# Altium footprint library 28Pins_prjct.PcbLib: 30 footprints (part 2 of 2)
Each footprint in its own frame and in the unit in brackets; x right, y up, seen from the top. Pads: shape width x height; smd on the part's side, far side on the other; paste and mask are expansions set on the pad; w line width, h text height; cw(c..) or ccw(c..) is an arc to the next point about the centre after c.
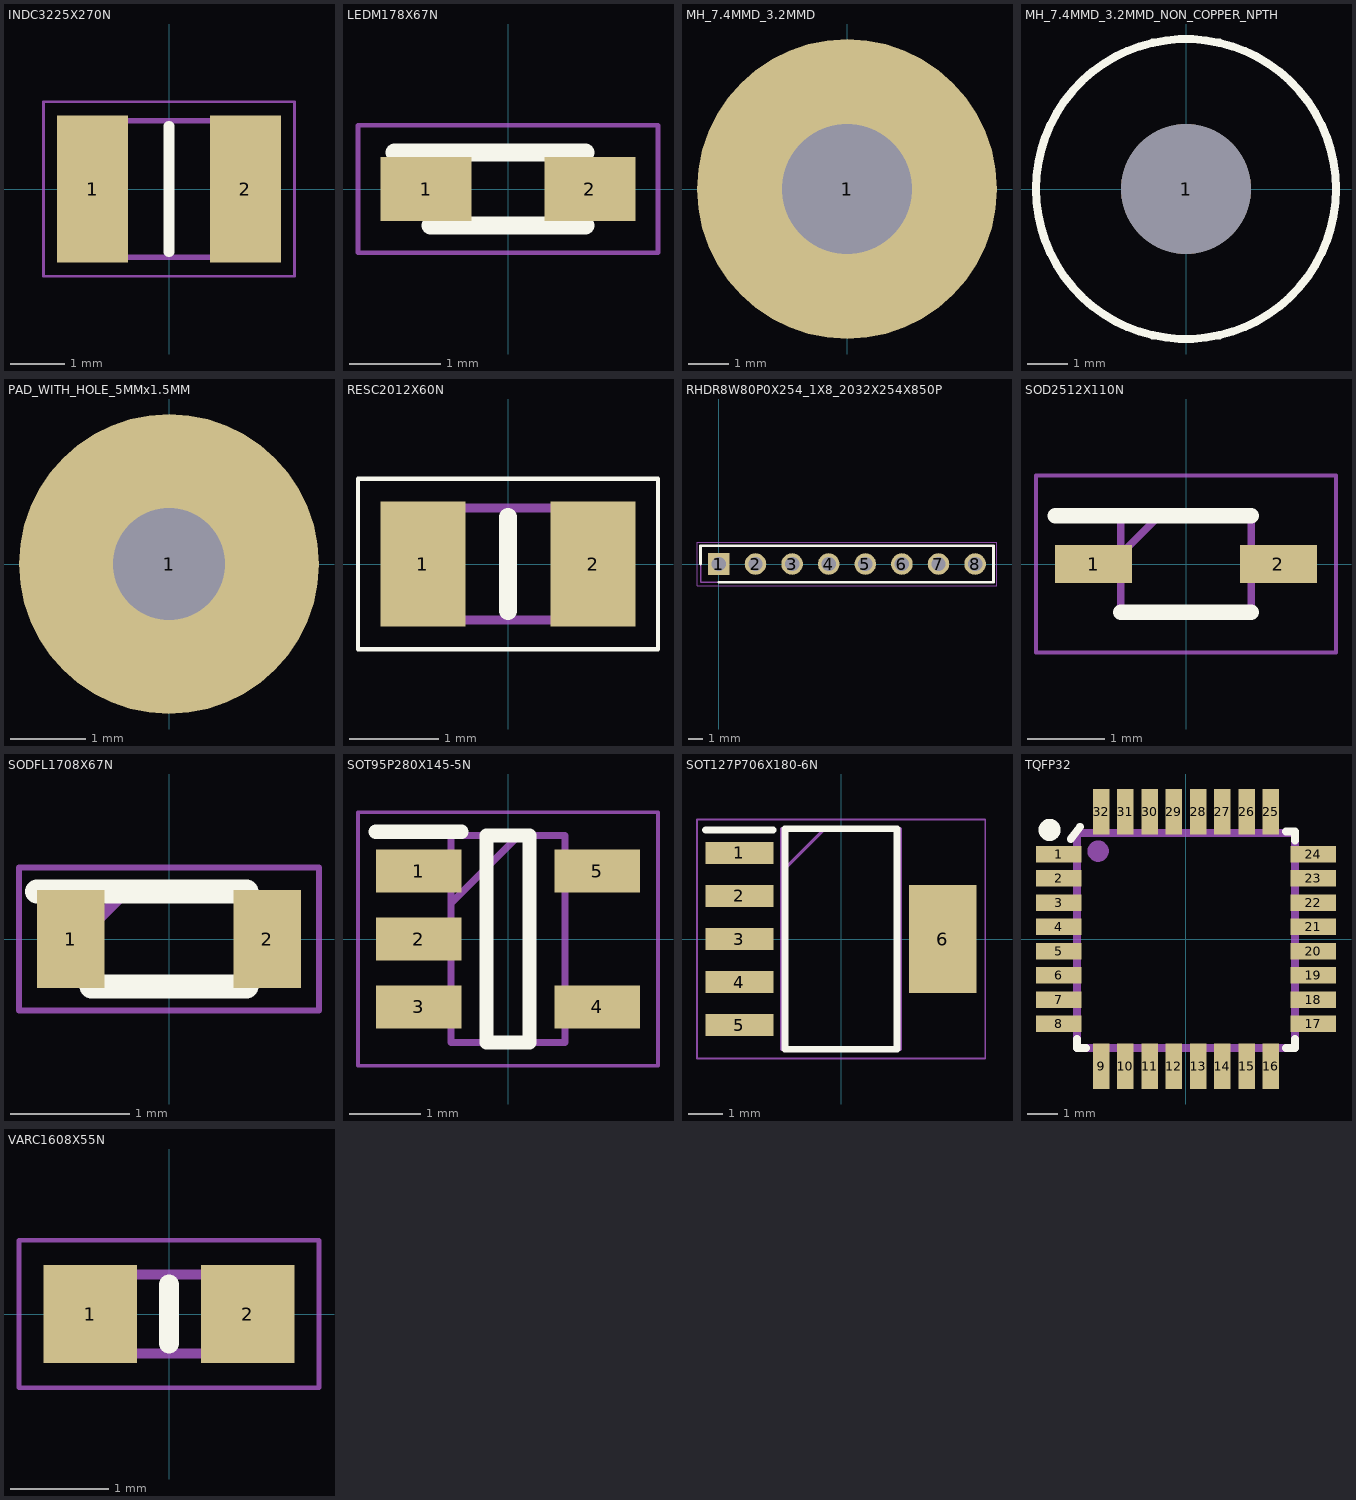
[diagram p1: the footprints below, top view; thin cyan lines are the x and y axes]

## INDC3225X270N [mm]
pads (2):
  rect 1.3x2.7 smd: 1(-1.4,0) 2(1.4,0)
Top Overlay:
  lines w0.2: 0,-1.15 0,1.15
Mechanical 13:
  lines w0.1: -1.6,-1.25 -1.6,1.25 1.6,1.25 1.6,-1.25 -1.6,-1.25
Mechanical 15:
  lines w0.05: -2.3,-1.6 -2.3,1.6 2.3,1.6 2.3,-1.6 -2.3,-1.6
3D body "L1210R2R2MDWIT.stp": height 2.7, standoff 0, extent -1.7,-1.35 1.7,1.35

## LEDM178X67N [mm]
pads (2):
  rect 1x0.7 smd: 1(-0.9,0) 2(0.9,0)
Top Overlay:
  lines w0.2: -1.25,0.4 0.85,0.4 ; -0.85,-0.4 0.85,-0.4
Mechanical 13:
  lines w0.1: -0.85,0.05 -0.5,0.4 ; -0.85,-0.4 -0.85,0.4 0.85,0.4 0.85,-0.4 -0.85,-0.4
Mechanical 15:
  lines w0.05: -1.65,-0.7 -1.65,0.7 1.65,0.7 1.65,-0.7 -1.65,-0.7
3D body "LG_L29K-G2J1-24-Z.stp": height 0.65, standoff 0, extent -0.902,-0.444 0.902,0.444

## MH_7.4MMD_3.2MMD [mm]
pads (1):
  round 7.4 hole 3.2: 1(0,0)

## MH_7.4MMD_3.2MMD_NON_COPPER_NPTH [mm]
pads (1):
  round 3.2 hole 3.2 unplated: 1(0,0)
Top Overlay:
  circle w0.2: c0,0 r3.7

## PAD_WITH_HOLE_5MMx1.5MM [mm]
pads (1):
  round 4 hole 1.5: 1(0,0)

## PCBComponent_1 [mm]

## RESC2012X60N [mm]
pads (2):
  rect 0.95x1.4 smd: 1(-0.95,0) 2(0.95,0)
Top Overlay:
  lines w0.05: -1.675,-0.95 -1.675,0.95 1.675,0.95 1.675,-0.95 -1.675,-0.95
  lines w0.2: 0,-0.525 0,0.525
Mechanical 13:
  lines w0.1: -1,-0.625 -1,0.625 1,0.625 1,-0.625 -1,-0.625
3D body "RC0805FR-071ML.stp": height 0.6, standoff 0, extent -1,-0.625 1,0.625

## RHDR8W80P0X254_1X8_2032X254X850P [mm]
pads (8):
  rect 1.5x1.5 hole 1: 1(0,0)
  round 1.5 hole 1: 2(2.54,0) 3(5.08,0) 4(7.62,0) 5(10.16,0) 6(12.7,0) 7(15.24,0) 8(17.78,0)
Top Overlay:
  lines w0.2: -1.27,0 -1.27,1.27 19.05,1.27 19.05,-1.27 0,-1.27
Mechanical 13:
  lines w0.1: -1.27,-1.27 19.05,-1.27 19.05,1.27 -1.27,1.27 -1.27,-1.27
Mechanical 15:
  lines w0.05: -1.52,-1.52 19.3,-1.52 19.3,1.52 -1.52,1.52 -1.52,-1.52
3D body "M20-7820842.stp": height 8.5, standoff -3.17, extent -1.27,-1.27 19.05,1.27

## SOD2512X110N [mm]
pads (2):
  rect 1x0.5 smd: 1(-1.2,0) 2(1.2,0)
Top Overlay:
  lines w0.2: -1.7,0.625 0.85,0.625 ; -0.85,-0.625 0.85,-0.625
Mechanical 13:
  lines w0.1: -0.85,0.125 -0.35,0.625 ; -0.85,-0.625 -0.85,0.625 0.85,0.625 0.85,-0.625 -0.85,-0.625
Mechanical 15:
  lines w0.05: -1.95,-1.15 -1.95,1.15 1.95,1.15 1.95,-1.15 -1.95,-1.15
3D body "BAT54HT1G.stp": height 1.1, standoff 0, extent -1.25,-0.625 1.25,0.625

## SODFL1708X67N [mm]
pads (2):
  rect 0.57x0.82 smd: 1(-0.825,0) 2(0.825,0)
Top Overlay:
  lines w0.2: -1.11,0.4 0.65,0.4 ; -0.65,-0.4 0.65,-0.4
Mechanical 13:
  lines w0.1: -0.65,0.115 -0.365,0.4 ; -0.65,-0.4 0.65,-0.4 0.65,0.4 -0.65,0.4 -0.65,-0.4
Mechanical 15:
  lines w0.05: -1.26,-0.6 1.26,-0.6 1.26,0.6 -1.26,0.6 -1.26,-0.6
3D body "LO_L29K-H2K1-24-Z.stp": height 0.67, standoff 0, extent -0.85,-0.4 0.85,0.4

## SOT95P280X145-5N [mm]
pads (5):
  rect 1.2x0.6 smd: 1(-1.25,0.95) 2(-1.25,0) 3(-1.25,-0.95) 4(1.25,-0.95) 5(1.25,0.95)
Top Overlay:
  lines w0.2: -1.85,1.5 -0.65,1.5 ; -0.3,-1.45 -0.3,1.45 0.3,1.45 0.3,-1.45 -0.3,-1.45
Mechanical 13:
  lines w0.1: -0.8,0.5 0.15,1.45 ; -0.8,-1.45 -0.8,1.45 0.8,1.45 0.8,-1.45 -0.8,-1.45
Mechanical 15:
  lines w0.05: -2.1,-1.775 -2.1,1.775 2.1,1.775 2.1,-1.775 -2.1,-1.775
3D body "SN74AHC1G09DBVR.stp": height 1.2, standoff 0, extent -1.4,-1.45 1.4,1.45

## SOT127P706X180-6N [mm]
pads (6):
  rect 2x0.65 smd: 1(-3,2.54) 2(-3,1.27) 3(-3,0) 4(-3,-1.27) 5(-3,-2.54)
  rect 2x3.2 smd: 6(3,0)
Top Overlay:
  lines w0.2: -4,3.215 -2,3.215 ; -1.65,-3.25 -1.65,3.25 1.65,3.25 1.65,-3.25 -1.65,-3.25
Mechanical 13:
  lines w0.1: -1.75,1.98 -0.48,3.25 ; -1.75,-3.25 -1.75,3.25 1.75,3.25 1.75,-3.25 -1.75,-3.25
Mechanical 15:
  lines w0.05: -4.25,-3.525 -4.25,3.525 4.25,3.525 4.25,-3.525 -4.25,-3.525
3D body "TL1963A-33DCQR.stp": height 1.66, standoff 0, extent -3.554,-3.25 3.554,3.25

## TQFP32 [mm]
pads (32):
  rect 1.5x0.55 smd mask+0.06: 1(-4.2,2.8) 2(-4.2,2) 3(-4.2,1.2) 4(-4.2,0.4) 5(-4.2,-0.4) 6(-4.2,-1.2) 7(-4.2,-2) 8(-4.2,-2.8) 17(4.2,-2.8) 18(4.2,-2) 19(4.2,-1.2) 20(4.2,-0.4) 21(4.2,0.4) 22(4.2,1.2) 23(4.2,2) 24(4.2,2.8)
  rect 0.55x1.5 smd mask+0.06: 9(-2.8,-4.2) 10(-2,-4.2) 11(-1.2,-4.2) 12(-0.4,-4.2) 13(0.4,-4.2) 14(1.2,-4.2) 15(2,-4.2) 16(2.8,-4.2) 25(2.8,4.2) 26(2,4.2) 27(1.2,4.2) 28(0.4,4.2) 29(-0.4,4.2) 30(-1.2,4.2) 31(-2,4.2) 32(-2.8,4.2)
Top Overlay:
  circle w0.5: c-4.5,3.6 r0.114
  lines w0.254: -3.8,3.3 -3.5,3.7 ; -3.3,-3.6 -3.6,-3.6 ; 3.3,3.55 3.6,3.55 ; 3.6,-3.3 3.6,-3.6 ; -3.6,-3.6 -3.6,-3.3 -3.6,-3.6 ; 3.6,-3.6 3.3,-3.6 3.6,-3.6 ; 3.6,3.55 3.6,3.25 3.6,3.55
Mechanical 29:
  circle w0.5: c-2.9,2.9 r0.102
  lines w0.254: 3.5,3.5 -3.6,3.5 -3.6,-3.6 3.5,-3.6 3.6,-3.5 3.6,3.5
  text ".Designator" at -1.4,-0.4 h1.8
3D body "User Library-tqfp32.step": height 1.2, standoff 0, extent -4.6,-4.599 4.599,4.599

## VARC1608X55N [mm]
pads (2):
  rect 0.95x1 smd: 1(-0.8,0) 2(0.8,0)
Top Overlay:
  lines w0.2: 0,-0.3 0,0.3
Mechanical 13:
  lines w0.1: -0.8,-0.4 -0.8,0.4 0.8,0.4 0.8,-0.4 -0.8,-0.4
Mechanical 15:
  lines w0.05: -1.525,-0.75 -1.525,0.75 1.525,0.75 1.525,-0.75 -1.525,-0.75
3D body "CG0603MLC-05E.stp": height 0.55, standoff 0, extent -0.8,-0.4 0.8,0.4